# Altium schematic symbol library NES-Components.SchLib: 33 symbols
Pins are listed as number, name and electrical type; pins without a type are passive.

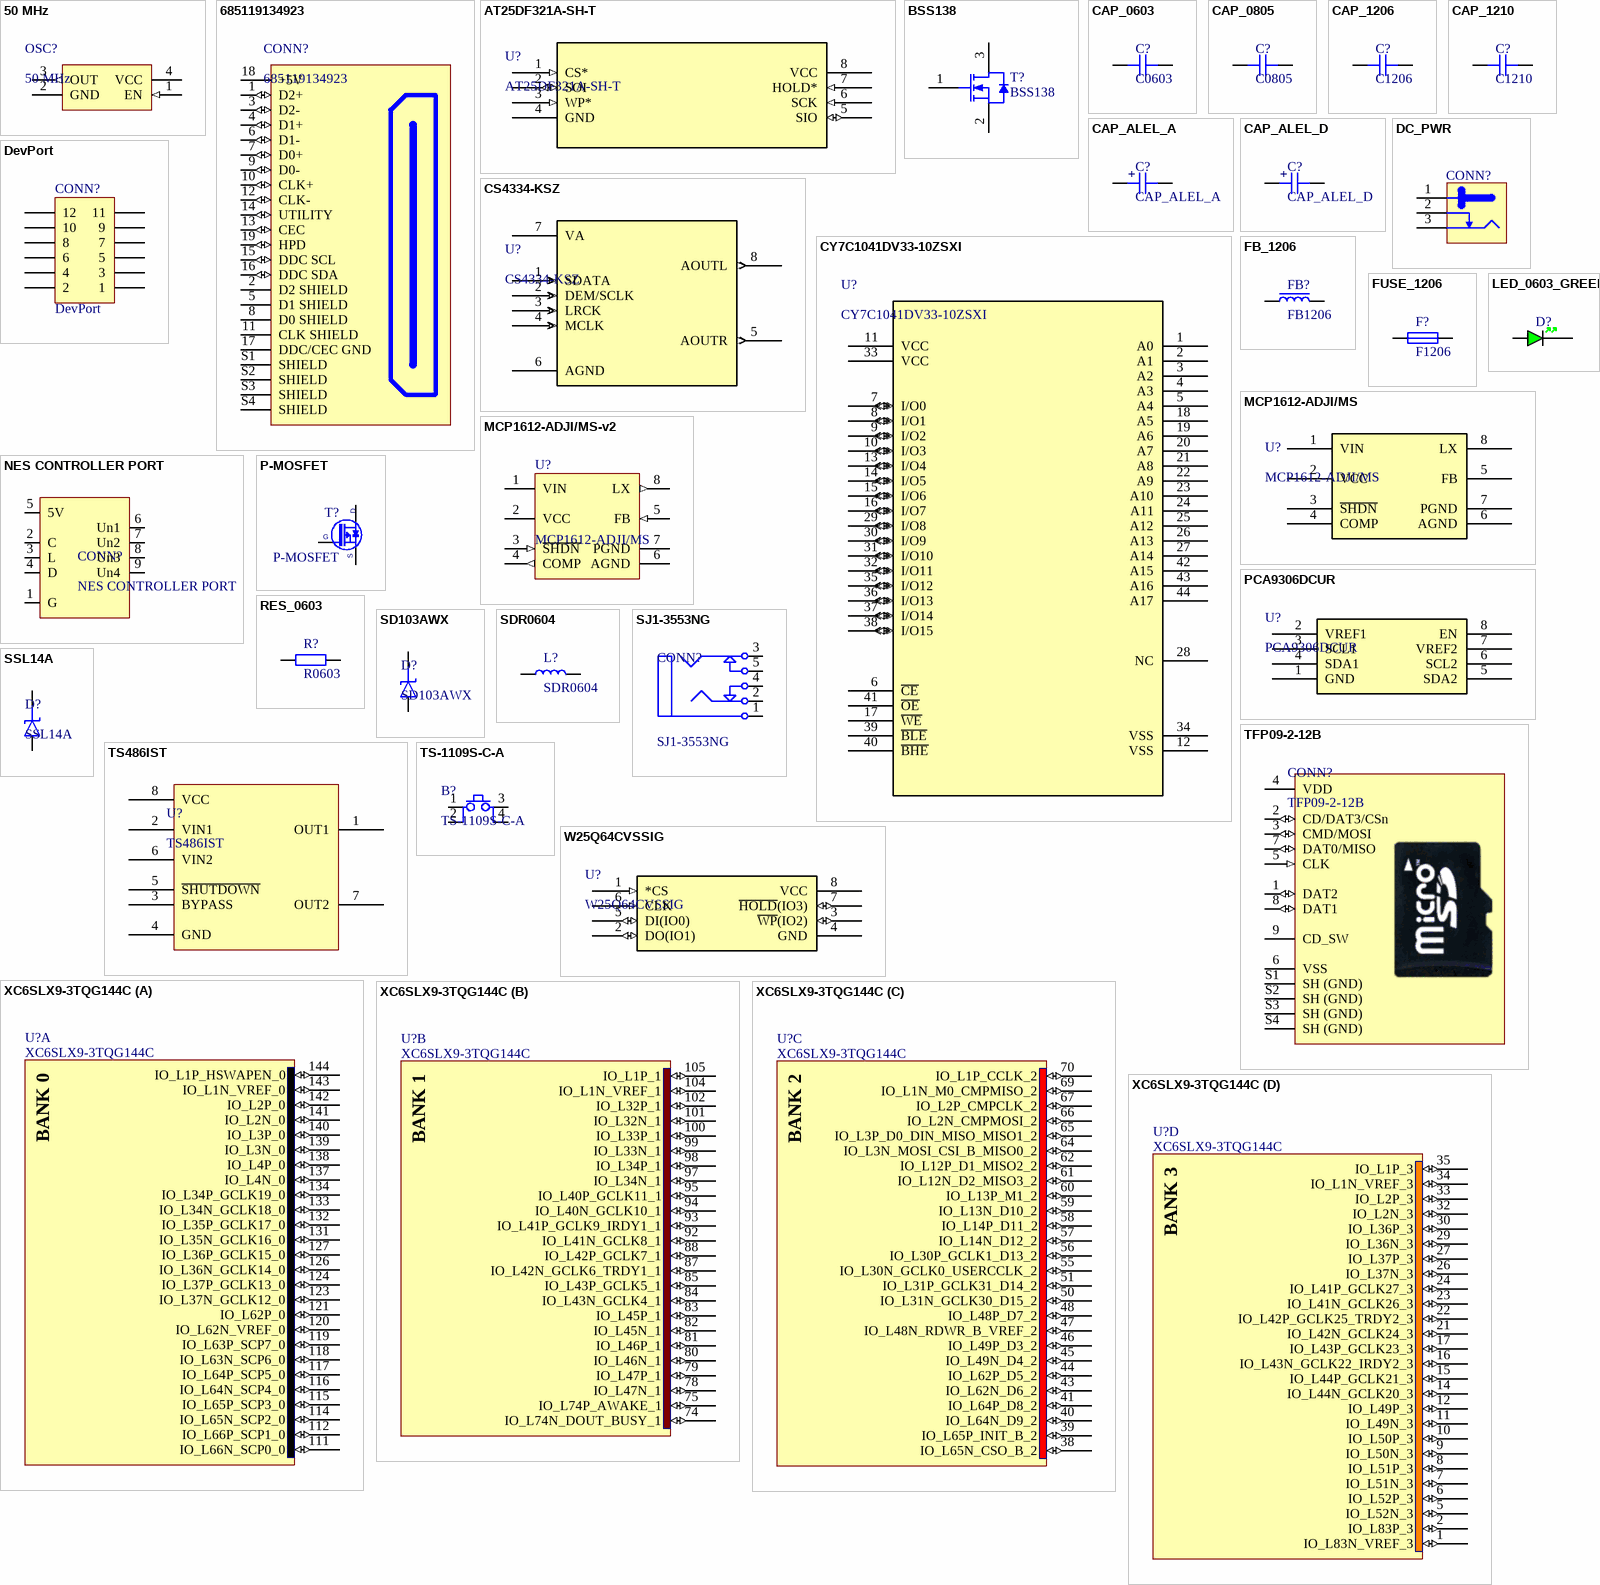
[diagram p0: symbols 50 MHz to XC6SLX9-3TQG144C]

## 50 MHz
designator OSC?
footprint OSCSC508P500X700X200-4N (CFPT Case, SMD Oscillator, side convave, 4 pins, 5.00x7.00mm)
pins: 1 EN (in), 2 GND, 3 OUT (out), 4 VCC

## 685119134923
designator CONN?
Würth Elektronik 685119134923 HDMI type A receptacle
footprint 685119134923 (Würth Elektronik 685119134923 HDMI receptacle footprint)
pins: 1 D2+ (io), 2 D2 SHIELD, 3 D2- (io), 4 D1+ (io), 5 D1 SHIELD, 6 D1- (io), 7 D0+ (io), 8 D0 SHIELD, 9 D0- (io), 10 CLK+ (io), 11 CLK SHIELD, 12 CLK- (io), 13 CEC (io), 14 UTILITY (io), 15 DDC SCL (io), 16 DDC SDA (io), 17 DDC/CEC GND, 18 +5V, 19 HPD (io), S1 SHIELD, S2 SHIELD, S3 SHIELD, S4 SHIELD

## AT25DF321A-SH-T
designator U?
No Description Available; Mfr_Name: Microchip; Copyright: Copyright (C) 2023 Ultra Librarian. All rights reserved.; Manufacturer_Part_Number: AT25DF321A-SH-T; RefDes: RefDes; Type: DEV
footprint 8S2_ATM
pins: 1 CS* (in), 2 SOI (io), 3 WP* (in), 4 GND (power), 5 SIO (io), 6 SCK (in), 7 HOLD* (in), 8 VCC (power)

## BSS138
designator T?
N-Channel Enhancement Mode Field-Effect Transistor; Manufacturer: NXP Semiconductors; PartNumber: SI2302DS,215; Ciss [typ] (pF): 230; VDS [max] (V): 20; Channel Type: N; Coss [typ] (pF): 125; ID [max] (A): 2.5; Packing: Tape & Reel; DatasheetVersion: Rev. 02; PackageVersion: 06-03-16, 03/2006; Code_JEDEC: TO-236AB; ComponentLink3Description: Package Specification; ComponentLink2URL: http://www.nxp.com/documents/data_sheet/SI2302DS.pdf; PackageDescription: 3-Pin Small Outline Transistor Package, Body 2.9 x 1.3 mm, Pitch 0.95 mm; ComponentLink2Description: Datasheet; ComponentLink1Description: Manufacturer URL; Mounting Technology: Surface Mount; ComponentLink1URL: http://www.nxp.com/; ComponentLink3URL: http://www.nxp.com/documents/outline_drawing/sot023_po.pdf; PackageReference: SOT23
footprint SOT95P240X110-3N (SOT23 3-Leads, Pitch 0.95mm - Body 1.3x2.9mm, IPC Medium Density)
footprint SOT-23_3L_ONS
pins: 1 G "gate", 2 S "source", 3 D "drain"

## CAP_0603
designator C?, comment C0603
Capacitor SMD 0603
footprint CAP_SMD0603 (Chip Capacitor, Body 1.6x0.8mm IPC Medium Density)
pins: 1, 2

## CAP_0805
designator C?, comment C0805
Capacitor SMD 0805
footprint CAP_SMD0805 (Chip Capacitor, Body 2.0x1.25mm, IPC Medium Density)
pins: 1, 2

## CAP_1206
designator C?, comment C1206
Capacitor SMD 1206 NP0 Dielektrikum
footprint CAP_SMD1206 (Chip Capacitor, Body 3.2x1.6mm, IPC Medium Density)
pins: 1, 2

## CAP_1210
designator C?, comment C1210
Capacitor SMD 1210
footprint CAP_SMD1210 (Chip Capacitor, Body 3.2x2.5mm, IPC Medium Density)
pins: 1, 2

## CAP_ALEL_A
designator C?
Capacitor SMD Tantal A 16V; Manufacturer: *; Manufacturer Part Number: *
footprint CAPMP3216X180N (Capacitor, Polarized, Molded  Body 3.2x1.6mm, IPC Medium Density)
pins: 1, 2
text: +

## CAP_ALEL_D
designator C?
Capacitor SMD Tantal D 20V; Manufacturer: *; Manufacturer Part Number: *
footprint CAPMP7343X310N (Capacitor, Polarized, Molded  Body 7.3x4.3mm, IPC Medium Density)
pins: 1, 2
text: +

## CS4334-KSZ
designator U?
DAC 2-CH Delta-Sigma 24-bit 8-Pin SOIC; Mfr_Name: Cirrus Logic; Copyright: Copyright (C) 2023 Ultra Librarian. All rights reserved.; Manufacturer_Part_Number: CS4334-KSZ; RefDes: RefDes; Type: DEV
footprint CIR-SOIC-8_W150-M
footprint CIR-SOIC-8_W150-L
footprint CIR-SOIC-8_W150
footprint SOIC127P600X175-8N (SOIC 8, Pitch 1.27mm - Body 4x5mm, IPC Medium Density)
pins: 1 SDATA (in), 2 DEM/SCLK (in), 3 LRCK (in), 4 MCLK (in), 5 AOUTR (out), 6 AGND (power), 7 VA (power), 8 AOUTL (out)

## CY7C1041DV33-10ZSXI
designator U?
SRAM Chip Asynchronous Single 3.3V 4M-Bit 256K x 16 10ns 44-Pin TSOP-II Tray; Mfr_Name: Cypress Semiconductor; Copyright: Copyright (C) 2023 Ultra Librarian. All rights reserved.; Manufacturer_Part_Number: CY7C1041DV33-10ZSXI; RefDes: RefDes; Type: DEV
footprint TSOP-44
footprint TSOP-44-L
footprint TSOP-44-M
footprint SOP80P1184X119-44N (SOP, 0.80mm, Pitch; 44 pin, 10.16mm W X 18.415mm L X 1.194mm H body, IPC Medium Density)
footprint SOP80P1176X120-44N (SOP,0.80mm pitch;44 pin,10.30mm W X 18.54mm L X 1.20mm H body, IPC Medium Density)
pins: 1 A0, 2 A1, 3 A2, 4 A3, 5 A4, 6 ~{CE}, 7 I/O0 (io), 8 I/O1 (io), 9 I/O2 (io), 10 I/O3 (io), 11 VCC (power), 12 VSS (power), 13 I/O4 (io), 14 I/O5 (io), 15 I/O6 (io), 16 I/O7 (io), 17 ~{WE}, 18 A5, 19 A6, 20 A7, 21 A8, 22 A9, 23 A10, 24 A11, 25 A12, 26 A13, 27 A14, 28 NC, 29 I/O8 (io), 30 I/O9 (io), 31 I/O10 (io), 32 I/O11 (io), 33 VCC (power), 34 VSS (power), 35 I/O12 (io), 36 I/O13 (io), 37 I/O14 (io), 38 I/O15 (io), 39 ~{BLE}, 40 ~{BHE}, 41 ~{OE}, 42 A15, 43 A16, 44 A17

## DC_PWR
designator CONN?
12V /  5A, 2.1mm Diameter Pin, DC Power Socket With  Switch. DC10A Type
footprint DC_PWR_CONN
pins: 1 (power), 2 (power), 3 (power)

## DevPort
designator CONN?
Header, 6-Pin, Dual row; LatestRevisionDate: 17-Jul-2002; LatestRevisionNote: Re-released for DXP Platform.; Publisher: Altium Limited
footprint HDR2X6 (Connector; Header; 6x2 Position)
pins: 1, 2, 3, 4, 5, 6, 7, 8, 9, 10, 11, 12

## FB_1206
designator FB?, comment FB1206
Ferrite Bead SMD 1206
footprint IND_SMD1206 (Chip Inductor, EIA 1206, Metric 3216, 3.20mm L X 1.60mm W, IPC Medium Density)
pins: 1, 2

## FUSE_1206
designator F?, comment F1206
Fuse SMD 1206; Manufacturer: *; Manufacturer Part Number: *
footprint RES_SMD1206 (Chip Resistor, EIA 1206, Metric 3216, Body 3.2x1.6mm, IPC Medium Density)
pins: 1, 2

## LED_0603_GREEN
designator D?, comment GREEN  (value not drawn)
LED 0603 GREEN SMD
footprint LED_G_SMD0603 (Chip Resistor, EIA 0603, Metric 1608, Body 1.6x0.8mm, IPC Medium Density)
pins: 1 A, 2 K

## MCP1612-ADJI/MS
designator U?
Single 1A Synchronous Buck Regulator, 1.4MHz, 8-Pin MSOP, Industrial Temperature; Mfr_Name: Microchip; Copyright: Copyright (C) 2023 Ultra Librarian. All rights reserved.; Manufacturer_Part_Number: MCP1612-ADJI/MS; RefDes: RefDes; Type: DEV
footprint MSOP8_MC_MCH
footprint MSOP8_MC_MCH-L
footprint MSOP8_MC_MCH-M
footprint SOP65P490X109-8N (SOP, 0.65mm pitch; 8 pin,3.00mm W X 3.00mm L X 1.09mm H bodyI, PC Medium Density)
pins: 1 VIN, 2 VCC, 3 ~{SHDN}, 4 COMP, 5 FB, 6 AGND, 7 PGND, 8 LX

## MCP1612-ADJI/MS-v2
designator U?, comment MCP1612-ADJI/MS
Single 1A Synchronous Buck Regulator, 1.4MHz, 8-Pin MSOP, Industrial Temperature; PackageDescription: 8-Lead Plastic Micro Small Outline Package (MS) [MSOP]; PackageVersion: revBB, Aug-2009; PackageReference: MSOP-MS8; DatasheetVersion: revB, Sep-2005
footprint MSOP-MS8_L (TSOP, 8-Leads, Body 3x3mm, Pitch 0.65mm, IPC High Density)
footprint MSOP-MS8_M (TSOP, 8-Leads, Body 3x3mm, Pitch 0.65mm, IPC Low Density)
footprint MSOP-MS8_N (TSOP, 8-Leads, Body 3x3mm, Pitch 0.65mm, IPC Medium Density)
pins: 1 VIN (power), 2 VCC (power), 3 ~{SHDN} (in), 4 COMP (out), 5 FB (in), 6 AGND (power), 7 PGND (power), 8 LX (out)

## NES CONTROLLER PORT
designator CONN?
footprint NES controller port
pins: 1 G, 2 C, 3 L, 4 D, 5 5V, 6 Un1, 7 Un2, 8 Un3, 9 Un4

## P-MOSFET
designator T?
P-CHANNEL MOSFET WITH DIODE FHK2301-ME; Part Number: BSH203; Part Description: -30V -470mA P-Channel Enhancement Mode MOS Transistor; Manufacturer: NXP SEMICONDUCTORS; PressFit: No; Bonding: No; Component Kind: Standard; Component Type: Standard; Device: BSH203; Footprint: SOT95P230X110-3N; PackageDescription: SOT23, 0.95mm Pitch; 3 Pin, 1.30mm W X 2.90mm L X 1.10mm H body, IPC Medium Density; Manufacturer Part Number: BSH203; Pin Count: 3; Case: SOT23-3; Mounted: Yes; Socket: No; SMD: Yes; Sense: No; ComponentHeight: 1.1mm; HelpURL: \\cern.ch\dfs\Applications\Altium\Datasheets\BSH203.pdf; Author: CERN DEM JLC; CreateDate: 2010. 05. 10.; LatestRevisionDate: 2010. 05. 10.
footprint SOT95P240X110-3N (SOT23 3-Leads, Pitch 0.95mm - Body 1.3x2.9mm, IPC Medium Density)
pins: 1 G, 2 S, 3 D

## PCA9306DCUR
designator U?
2-bit bidirectional 400-kHz I2C/SMBus voltage level translator 8-VSSOP -40 to 85; Mfr_Name: Texas Instruments; Copyright: Copyright (C) 2023 Ultra Librarian. All rights reserved.; Manufacturer_Part_Number: PCA9306DCUR; RefDes: RefDes; Type: DEV
footprint DCU8
footprint DCU8-L
footprint DCU8-M
footprint SOP50P310X90-8N (SOP, 0.50mm pitch; 8 pin, 2.30mm W X 2.00mm L X 0.90mm H body, PC Medium Density)
pins: 1 GND (power), 2 VREF1 (power), 3 SCL1, 4 SDA1, 5 SDA2, 6 SCL2, 7 VREF2 (power), 8 EN

## RES_0603
designator R?, comment R0603
Resistor SMD 0603
footprint RES_SMD0603 (Chip Resistor, EIA 0603, Metric 1608, Body 1.6x0.8mm, IPC Medium Density)
pins: 1, 2

## SD103AWX
designator D?
Schottky Barrier Diode
footprint SOD-523_0P9X1P3_ONS
footprint SODFL1608X70N (SODFL (SOD-523) Diode; 1.20mm W X 0.80mm L X 0.70mm H Body, IPC Medium Density)
pins: 1 K, 2 A

## SDR0604
designator L?
Inductor SDR0604
footprint SDR0604
pins: 1, 2

## SJ1-3553NG
designator CONN?
CUI SJ1-3553NG 3.5mm jack receptacle; Published: 5-Jan-2004; LatestRevisionDate: 17-Dec-2003; LatestRevisionNote: PCB Footprint replaced.; DatasheetDocument: 07-Mar-2000; Publisher: Altium Limited; ComponentLink1Description: Manufacturer Link; ComponentLink1URL: http://domino.kycon.com/internet/Products.html
footprint SJ1-3553NG (CUI SJ1-3553NG 3.5mm jack receptacle footprint)
pins: 1, 2, 3, 4, 5

## SSL14A
designator D?
Schottky Barrier Diode SSL14A
footprint DIOM5226X230N (DO-214-AC/SMA Diode, Molded Body; 5.195mm L X 2.605mm W X 2.30mm H, IPC Medium Density)
pins: 1 K, 2 A

## TFP09-2-12B
designator CONN?
MicroSD card socket
footprint TFP09-2-12B (MicroSD card socket)
pins: 1 DAT2 (io), 2 CD/DAT3/CSn (io), 3 CMD/MOSI (io), 4 VDD (power), 5 CLK (in), 6 VSS (power), 7 DAT0/MISO (io), 8 DAT1 (io), 9 CD_SW, S1 SH (GND), S2 SH (GND), S3 SH (GND), S4 SH (GND)

## TS486IST
designator U?
100mW STEREO HEADPHONE AMPLIFIER WITH STANDBY / MODE
footprint SOP65P490X109-8N (SOP, 0.65mm pitch; 8 pin,3.00mm W X 3.00mm L X 1.09mm H bodyI, PC Medium Density)
pins: 1 OUT1, 2 VIN1, 3 BYPASS, 4 GND, 5 ~{SHUTDOWN}, 6 VIN2, 7 OUT2, 8 VCC

## TS-1109S-C-A
designator B?
Basic SMD button; Manufacturer: XKB Connectivity; Manufacturer Part Number: TS-1109S-C-A; Datasheet: https://datasheet.lcsc.com/lcsc/2110151730_XKB-Connectivity-TS-1109S-C-A_C397346.pdf
footprint SMD_Button
pins: 1, 2, 3, 4

## W25Q64CVSSIG
designator U?
SERIAL FLASH MEMORY WITH   DUAL AND QUAD SPI; Mfr_Name: Winbond; Copyright: Copyright (C) 2023 Ultra Librarian. All rights reserved.; Manufacturer_Part_Number: W25Q64CVSSIG; RefDes: RefDes; Type: DEV
footprint SOIC127P790X216-8N (SOIC, 1.27mm, Pitch; 8 Pin, 5.285mm W X 5.335mm L X 2.16mm H body, IPC Medium Density)
pins: 1 *CS (in), 2 DO(IO1) (io), 3 ~{WP}(IO2) (io), 4 GND (power), 5 DI(IO0) (io), 6 CLK (in), 7 ~{HOLD}(IO3) (io), 8 VCC (power)

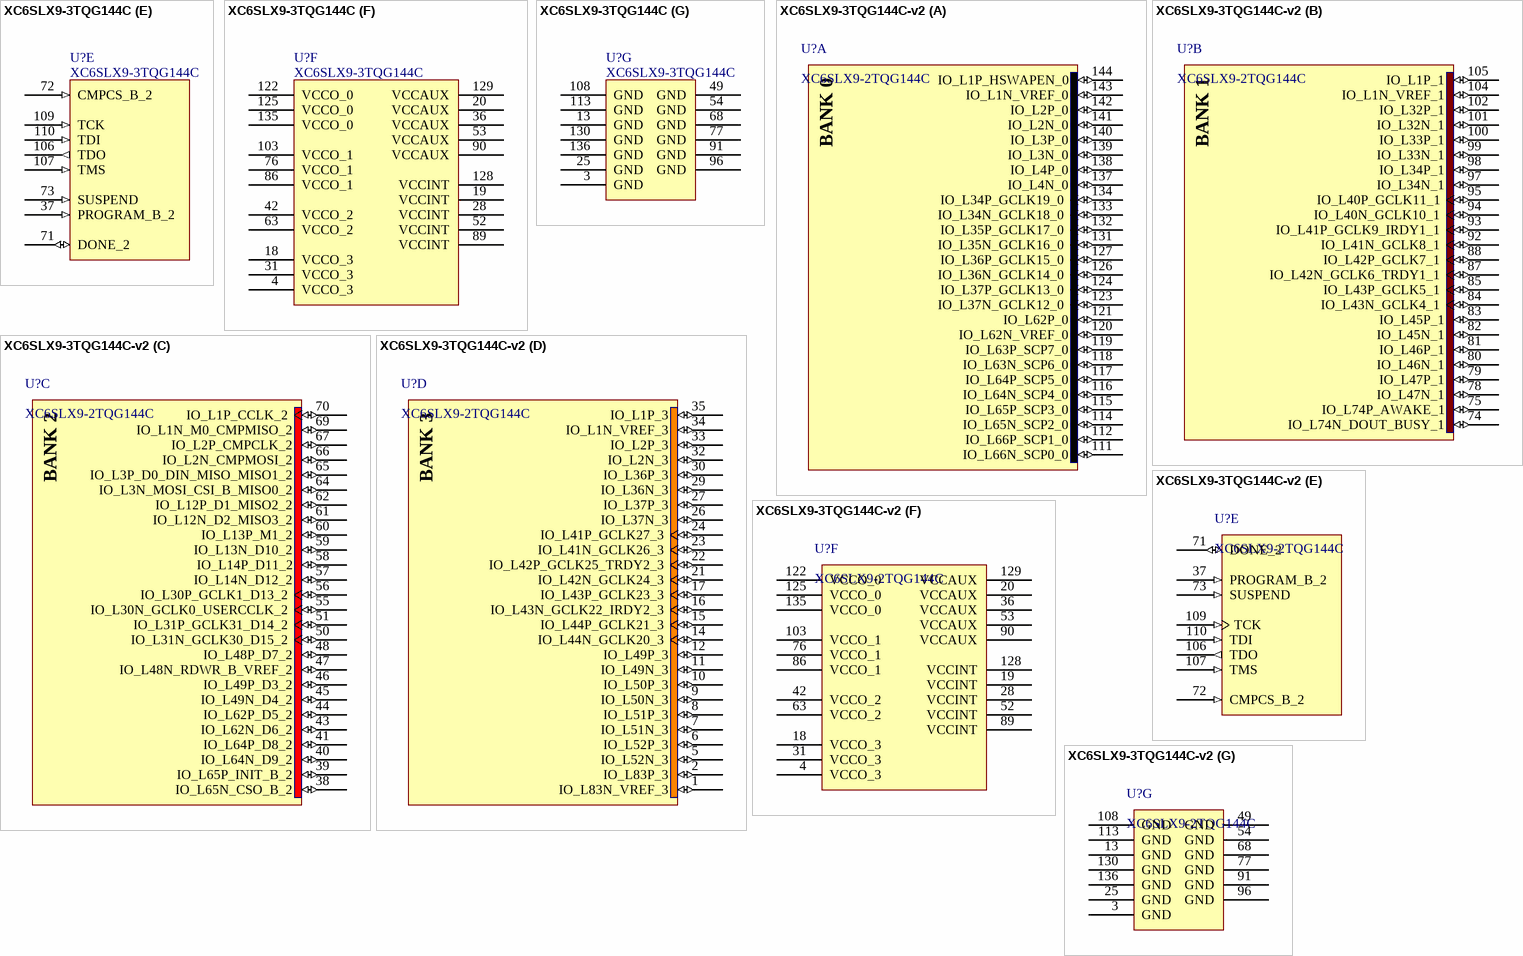
[diagram p1: symbols XC6SLX9-3TQG144C to XC6SLX9-3TQG144C-v2]

## XC6SLX9-3TQG144C
designator U?
Spartan-6 LX 1.2V FPGA, 102 User I/Os, 144-Pin TQFP (0.5mm Pitch), Speed Grade 3, Industrial Grade, Pb-Free
footprint QFP50P2200X2200X160-144N (QFP, 144-Leads, Body 20x20mm (BSC), Pitch 0.50mm, IPC Medium Density)
part A pins: 111 IO_L66N_SCP0_0 (io), 112 IO_L66P_SCP1_0 (io), 114 IO_L65N_SCP2_0 (io), 115 IO_L65P_SCP3_0 (io), 116 IO_L64N_SCP4_0 (io), 117 IO_L64P_SCP5_0 (io), 118 IO_L63N_SCP6_0 (io), 119 IO_L63P_SCP7_0 (io), 120 IO_L62N_VREF_0 (io), 121 IO_L62P_0 (io), 123 IO_L37N_GCLK12_0 (io), 124 IO_L37P_GCLK13_0 (io), 126 IO_L36N_GCLK14_0 (io), 127 IO_L36P_GCLK15_0 (io), 131 IO_L35N_GCLK16_0 (io), 132 IO_L35P_GCLK17_0 (io), 133 IO_L34N_GCLK18_0 (io), 134 IO_L34P_GCLK19_0 (io), 137 IO_L4N_0 (io), 138 IO_L4P_0 (io), 139 IO_L3N_0 (io), 140 IO_L3P_0 (io), 141 IO_L2N_0 (io), 142 IO_L2P_0 (io), 143 IO_L1N_VREF_0 (io), 144 IO_L1P_HSWAPEN_0 (io)
part B pins: 74 IO_L74N_DOUT_BUSY_1 (io), 75 IO_L74P_AWAKE_1 (io), 78 IO_L47N_1 (io), 79 IO_L47P_1 (io), 80 IO_L46N_1 (io), 81 IO_L46P_1 (io), 82 IO_L45N_1 (io), 83 IO_L45P_1 (io), 84 IO_L43N_GCLK4_1 (io), 85 IO_L43P_GCLK5_1 (io), 87 IO_L42N_GCLK6_TRDY1_1 (io), 88 IO_L42P_GCLK7_1 (io), 92 IO_L41N_GCLK8_1 (io), 93 IO_L41P_GCLK9_IRDY1_1 (io), 94 IO_L40N_GCLK10_1 (io), 95 IO_L40P_GCLK11_1 (io), 97 IO_L34N_1 (io), 98 IO_L34P_1 (io), 99 IO_L33N_1 (io), 100 IO_L33P_1 (io), 101 IO_L32N_1 (io), 102 IO_L32P_1 (io), 104 IO_L1N_VREF_1 (io), 105 IO_L1P_1 (io)
part C pins: 38 IO_L65N_CSO_B_2 (io), 39 IO_L65P_INIT_B_2 (io), 40 IO_L64N_D9_2 (io), 41 IO_L64P_D8_2 (io), 43 IO_L62N_D6_2 (io), 44 IO_L62P_D5_2 (io), 45 IO_L49N_D4_2 (io), 46 IO_L49P_D3_2 (io), 47 IO_L48N_RDWR_B_VREF_2 (io), 48 IO_L48P_D7_2 (io), 50 IO_L31N_GCLK30_D15_2 (io), 51 IO_L31P_GCLK31_D14_2 (io), 55 IO_L30N_GCLK0_USERCCLK_2 (io), 56 IO_L30P_GCLK1_D13_2 (io), 57 IO_L14N_D12_2 (io), 58 IO_L14P_D11_2 (io), 59 IO_L13N_D10_2 (io), 60 IO_L13P_M1_2 (io), 61 IO_L12N_D2_MISO3_2 (io), 62 IO_L12P_D1_MISO2_2 (io), 64 IO_L3N_MOSI_CSI_B_MISO0_2 (io), 65 IO_L3P_D0_DIN_MISO_MISO1_2 (io), 66 IO_L2N_CMPMOSI_2 (io), 67 IO_L2P_CMPCLK_2 (io), 69 IO_L1N_M0_CMPMISO_2 (io), 70 IO_L1P_CCLK_2 (io)
part D pins: 1 IO_L83N_VREF_3 (io), 2 IO_L83P_3 (io), 5 IO_L52N_3 (io), 6 IO_L52P_3 (io), 7 IO_L51N_3 (io), 8 IO_L51P_3 (io), 9 IO_L50N_3 (io), 10 IO_L50P_3 (io), 11 IO_L49N_3 (io), 12 IO_L49P_3 (io), 14 IO_L44N_GCLK20_3 (io), 15 IO_L44P_GCLK21_3 (io), 16 IO_L43N_GCLK22_IRDY2_3 (io), 17 IO_L43P_GCLK23_3 (io), 21 IO_L42N_GCLK24_3 (io), 22 IO_L42P_GCLK25_TRDY2_3 (io), 23 IO_L41N_GCLK26_3 (io), 24 IO_L41P_GCLK27_3 (io), 26 IO_L37N_3 (io), 27 IO_L37P_3 (io), 29 IO_L36N_3 (io), 30 IO_L36P_3 (io), 32 IO_L2N_3 (io), 33 IO_L2P_3 (io), 34 IO_L1N_VREF_3 (io), 35 IO_L1P_3 (io)
part E pins: 37 PROGRAM_B_2 (in), 71 DONE_2 (io), 72 CMPCS_B_2 (in), 73 SUSPEND (in), 106 TDO (out), 107 TMS (in), 109 TCK (in), 110 TDI (in)
part F pins: 4 VCCO_3 (power), 18 VCCO_3 (power), 19 VCCINT (power), 20 VCCAUX (power), 28 VCCINT (power), 31 VCCO_3 (power), 36 VCCAUX (power), 42 VCCO_2 (power), 52 VCCINT (power), 53 VCCAUX (power), 63 VCCO_2 (power), 76 VCCO_1 (power), 86 VCCO_1 (power), 89 VCCINT (power), 90 VCCAUX (power), 103 VCCO_1 (power), 122 VCCO_0 (power), 125 VCCO_0 (power), 128 VCCINT (power), 129 VCCAUX (power), 135 VCCO_0 (power)
part G pins: 3 GND (power), 13 GND (power), 25 GND (power), 49 GND (power), 54 GND (power), 68 GND (power), 77 GND (power), 91 GND (power), 96 GND (power), 108 GND (power), 113 GND (power), 130 GND (power), 136 GND (power)
part A text: BANK 0
part B text: BANK 1
part C text: BANK 2
part D text: BANK 3

## XC6SLX9-3TQG144C-v2
designator U?, comment XC6SLX9-2TQG144C
Spartan-6 LX 1.2V FPGA, 102 User I/Os, 144-Pin TQFP (0.5mm Pitch), Speed Grade 2, Commercial Grade, Pb-Free; PackageVersion: ver1.2, Jun-2004; DatasheetVersion: ver1.6, Nov-2010; PackageDescription: 144-Pin Thin Quad Flat Pack (TQG144) - Pb-Free; PackageReference: TQG144; Code_JEDEC: MS-026-BFB
footprint TQG144_L (Thin QFP, 144-Leads, Body 20x20mm, Pitch 0.5mm, IPC High Density)
footprint TQG144_M (Thin QFP, 144-Leads, Body 20x20mm, Pitch 0.5mm, IPC Low Density)
footprint TQG144_N (Thin QFP, 144-Leads, Body 20x20mm, Pitch 0.5mm, IPC Medium Density)
part A pins: 111 IO_L66N_SCP0_0 (io), 112 IO_L66P_SCP1_0 (io), 114 IO_L65N_SCP2_0 (io), 115 IO_L65P_SCP3_0 (io), 116 IO_L64N_SCP4_0 (io), 117 IO_L64P_SCP5_0 (io), 118 IO_L63N_SCP6_0 (io), 119 IO_L63P_SCP7_0 (io), 120 IO_L62N_VREF_0 (io), 121 IO_L62P_0 (io), 123 IO_L37N_GCLK12_0 (io), 124 IO_L37P_GCLK13_0 (io), 126 IO_L36N_GCLK14_0 (io), 127 IO_L36P_GCLK15_0 (io), 131 IO_L35N_GCLK16_0 (io), 132 IO_L35P_GCLK17_0 (io), 133 IO_L34N_GCLK18_0 (io), 134 IO_L34P_GCLK19_0 (io), 137 IO_L4N_0 (io), 138 IO_L4P_0 (io), 139 IO_L3N_0 (io), 140 IO_L3P_0 (io), 141 IO_L2N_0 (io), 142 IO_L2P_0 (io), 143 IO_L1N_VREF_0 (io), 144 IO_L1P_HSWAPEN_0 (io)
part B pins: 74 IO_L74N_DOUT_BUSY_1 (io), 75 IO_L74P_AWAKE_1 (io), 78 IO_L47N_1 (io), 79 IO_L47P_1 (io), 80 IO_L46N_1 (io), 81 IO_L46P_1 (io), 82 IO_L45N_1 (io), 83 IO_L45P_1 (io), 84 IO_L43N_GCLK4_1 (io), 85 IO_L43P_GCLK5_1 (io), 87 IO_L42N_GCLK6_TRDY1_1 (io), 88 IO_L42P_GCLK7_1 (io), 92 IO_L41N_GCLK8_1 (io), 93 IO_L41P_GCLK9_IRDY1_1 (io), 94 IO_L40N_GCLK10_1 (io), 95 IO_L40P_GCLK11_1 (io), 97 IO_L34N_1 (io), 98 IO_L34P_1 (io), 99 IO_L33N_1 (io), 100 IO_L33P_1 (io), 101 IO_L32N_1 (io), 102 IO_L32P_1 (io), 104 IO_L1N_VREF_1 (io), 105 IO_L1P_1 (io)
part C pins: 38 IO_L65N_CSO_B_2 (io), 39 IO_L65P_INIT_B_2 (io), 40 IO_L64N_D9_2 (io), 41 IO_L64P_D8_2 (io), 43 IO_L62N_D6_2 (io), 44 IO_L62P_D5_2 (io), 45 IO_L49N_D4_2 (io), 46 IO_L49P_D3_2 (io), 47 IO_L48N_RDWR_B_VREF_2 (io), 48 IO_L48P_D7_2 (io), 50 IO_L31N_GCLK30_D15_2 (io), 51 IO_L31P_GCLK31_D14_2 (io), 55 IO_L30N_GCLK0_USERCCLK_2 (io), 56 IO_L30P_GCLK1_D13_2 (io), 57 IO_L14N_D12_2 (io), 58 IO_L14P_D11_2 (io), 59 IO_L13N_D10_2 (io), 60 IO_L13P_M1_2 (io), 61 IO_L12N_D2_MISO3_2 (io), 62 IO_L12P_D1_MISO2_2 (io), 64 IO_L3N_MOSI_CSI_B_MISO0_2 (io), 65 IO_L3P_D0_DIN_MISO_MISO1_2 (io), 66 IO_L2N_CMPMOSI_2 (io), 67 IO_L2P_CMPCLK_2 (io), 69 IO_L1N_M0_CMPMISO_2 (io), 70 IO_L1P_CCLK_2 (io)
part D pins: 1 IO_L83N_VREF_3 (io), 2 IO_L83P_3 (io), 5 IO_L52N_3 (io), 6 IO_L52P_3 (io), 7 IO_L51N_3 (io), 8 IO_L51P_3 (io), 9 IO_L50N_3 (io), 10 IO_L50P_3 (io), 11 IO_L49N_3 (io), 12 IO_L49P_3 (io), 14 IO_L44N_GCLK20_3 (io), 15 IO_L44P_GCLK21_3 (io), 16 IO_L43N_GCLK22_IRDY2_3 (io), 17 IO_L43P_GCLK23_3 (io), 21 IO_L42N_GCLK24_3 (io), 22 IO_L42P_GCLK25_TRDY2_3 (io), 23 IO_L41N_GCLK26_3 (io), 24 IO_L41P_GCLK27_3 (io), 26 IO_L37N_3 (io), 27 IO_L37P_3 (io), 29 IO_L36N_3 (io), 30 IO_L36P_3 (io), 32 IO_L2N_3 (io), 33 IO_L2P_3 (io), 34 IO_L1N_VREF_3 (io), 35 IO_L1P_3 (io)
part E pins: 37 PROGRAM_B_2 (in), 71 DONE_2 (io), 72 CMPCS_B_2 (in), 73 SUSPEND (in), 106 TDO (out), 107 TMS (in), 109 TCK (in), 110 TDI (in)
part F pins: 4 VCCO_3 (power), 18 VCCO_3 (power), 19 VCCINT (power), 20 VCCAUX (power), 28 VCCINT (power), 31 VCCO_3 (power), 36 VCCAUX (power), 42 VCCO_2 (power), 52 VCCINT (power), 53 VCCAUX (power), 63 VCCO_2 (power), 76 VCCO_1 (power), 86 VCCO_1 (power), 89 VCCINT (power), 90 VCCAUX (power), 103 VCCO_1 (power), 122 VCCO_0 (power), 125 VCCO_0 (power), 128 VCCINT (power), 129 VCCAUX (power), 135 VCCO_0 (power)
part G pins: 3 GND (power), 13 GND (power), 25 GND (power), 49 GND (power), 54 GND (power), 68 GND (power), 77 GND (power), 91 GND (power), 96 GND (power), 108 GND (power), 113 GND (power), 130 GND (power), 136 GND (power)
part A text: BANK 0
part B text: BANK 1
part C text: BANK 2
part D text: BANK 3